# EAGLE library part SN74LV4245A (library logicIC)
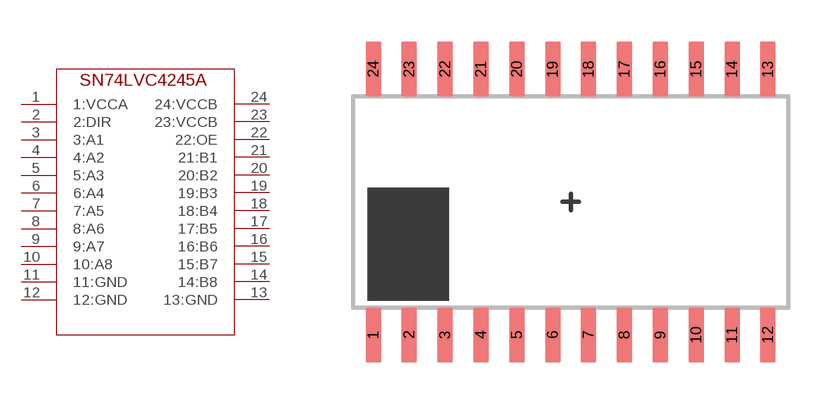
[diagram p1: symbol with the pads of SOIC24; footprint SOIC24]

Designator prefix -

## SN74LV4245A  [SOIC24]
1  1:VCCA  pwr
2  2:DIR  in
3  3:A1
4  4:A2
5  5:A3
6  6:A4
7  7:A5
8  8:A6
9  9:A7
10  10:A8
11  11:GND  pwr
12  12:GND  pwr
13  13:GND  pwr
14  14:B8
15  15:B7
16  16:B6
17  17:B5
18  18:B4
19  19:B3
20  20:B2
21  21:B1
22  22:OE  in
23  23:VCCB  pwr
24  24:VCCB  pwr

## Footprint SOIC24 (pad centres in mm)
smd 0.55 x 1.95: 1 -6.985,-4.7; 2 -5.715,-4.7; 3 -4.445,-4.7; 4 -3.175,-4.7; 5 -1.905,-4.7; 6 -0.635,-4.7; 7 0.635,-4.7; 8 1.905,-4.7; 9 3.175,-4.7; 10 4.445,-4.7; 11 5.715,-4.7; 12 6.985,-4.7; 13 6.985,4.7; 14 5.715,4.7; 15 4.445,4.7; 16 3.175,4.7; 17 1.905,4.7; 18 0.635,4.7; 19 -0.635,4.7; 20 -1.905,4.7; 21 -3.175,4.7; 22 -4.445,4.7; 23 -5.715,4.7; 24 -6.985,4.7